# EAGLE library part LTC4065 (library BQ25504)
LION/LIPO Battery Charging IC Low current
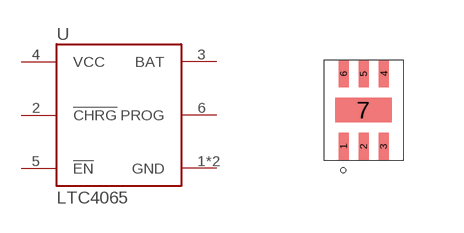
[diagram p26: symbol with the pads of DFN-6/2MM; footprint DFN-6/2MM]

Designator prefix -

## LTC4065 (DIGIKEY: LTC4065LEDC#TRMPBF)  [DFN-6/2MM]
1  GND
2  !CHRG
3  BAT
4  VCC
5  !EN
6  PROG
7  GND

## Footprint DFN-6/2MM (pad centres in mm)
smd 0.25 x 0.675: 1 -0.5,-0.91; 2 0,-0.91; 3 0.5,-0.91; 4 0.51,0.91; 5 0,0.91; 6 -0.5,0.91
smd 1.42 x 0.61: 7 0,0